# Altium footprint library PcbLib1.PcbLib: 46 footprints (part 3 of 3)
Each footprint in its own frame and in the unit in brackets; x right, y up, seen from the top. Pads: shape width x height; smd on the part's side, far side on the other; paste and mask are expansions set on the pad; w line width, h text height; cw(c..) or ccw(c..) is an arc to the next point about the centre after c.
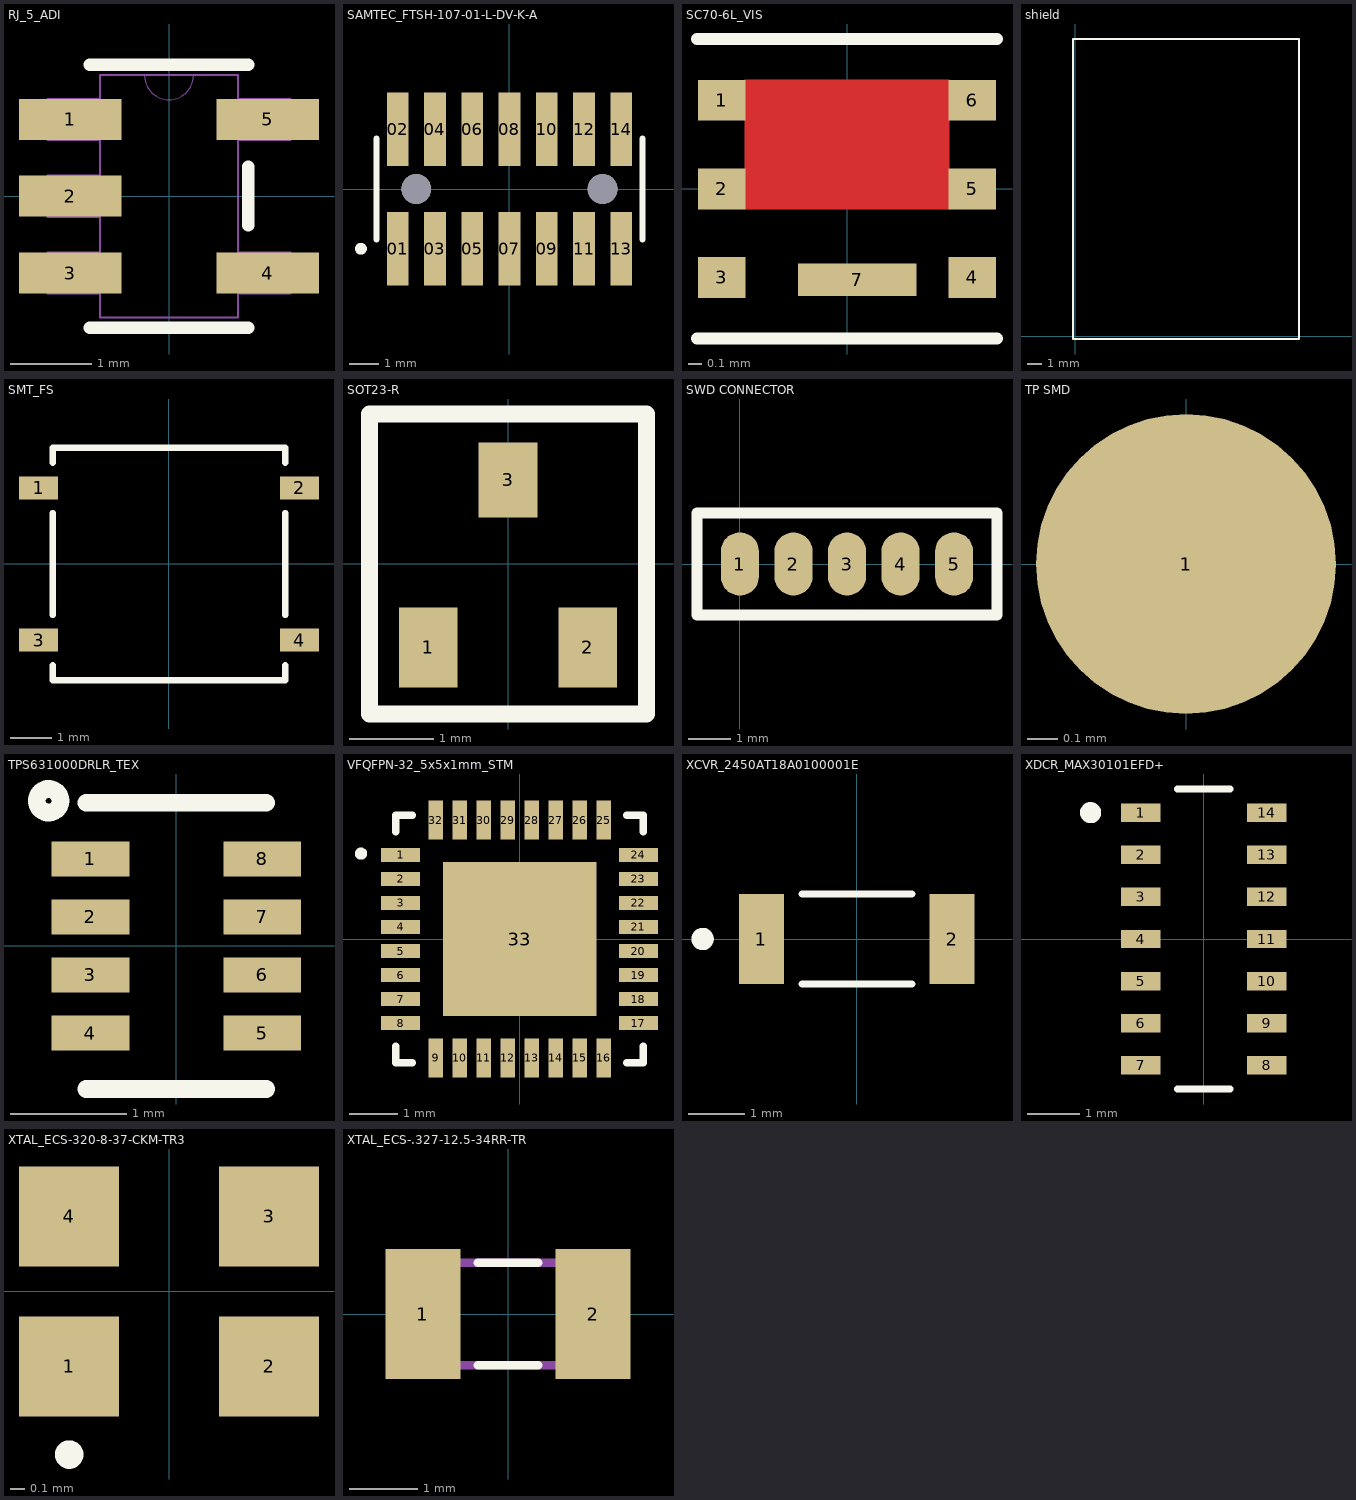
[diagram p2: the footprints below, top view; thin cyan lines are the x and y axes]

## RJ_5_ADI [mil]
pads (5):
  rect 50x20 smd paste+0 mask+0: 1(-48,37.4) 2(-48,0) 3(-48,-37.4) 4(48,-37.4) 5(48,37.4)
Top Overlay:
  lines w6: -38.5,-64 38.5,-64 ; -38.5,64 38.5,64 ; 38.5,-14.3 38.5,14.3
Mechanical 13:
  lines w0: -12,59 ccw(c0,59) 12,59
  lines w1: -59,-47.4 -33.5,-47.4 -33.5,-27.4 -59,-27.4 -59,-47.4 ; -59,-10 -33.5,-10 -33.5,10 -59,10 -59,-10 ; -59,27.4 -33.5,27.4 -33.5,47.4 -59,47.4 -59,27.4 ; -33.5,-59 -33.5,59 33.5,59 33.5,-59 -33.5,-59 ; 33.5,-47.4 59,-47.4 59,-27.4 33.5,-27.4 33.5,-47.4 ; 33.5,27.4 59,27.4 59,47.4 33.5,47.4 33.5,27.4
3D body "RJ_5_ADI.step": height 57.09, standoff 0, extent -59.02,-59.02 59.02,59.02

## SAMTEC_FTSH-107-01-L-DV-K-A [mm]
pads (16):
  rect 0.74x2.5 smd: 01(-3.81,-2.035) 02(-3.81,2.035) 03(-2.54,-2.035) 04(-2.54,2.035) 05(-1.27,-2.035) 06(-1.27,2.035) 07(0,-2.035) 08(0,2.035) 09(1.27,-2.035) 10(1.27,2.035) 11(2.54,-2.035) 12(2.54,2.035) 13(3.81,-2.035) 14(3.81,2.035)
  round 1.02 hole 1.02 unplated: ""(-3.175,0) ""(3.175,0)
Top Overlay:
  circle w0.2: c-5.06,-2.035 r0.1
  lines w0.2: -4.53,-1.715 -4.53,1.715 ; 4.53,-1.715 4.53,1.715
Bottom Solder:
  circle w0: c-3.175,0 r0.561
  circle w0: c3.175,0 r0.561
3D body "FTSH-107-01-L-DV-K-A.stp": height 6.1, standoff -0.89, extent -4.445,-2.921 4.445,2.921

## SC70-6L_VIS [mm]
pads (7):
  rect 0.35x0.3 smd paste-0.343: 1(-0.92,0.65) 2(-0.92,0) 3(-0.92,-0.65) 4(0.92,-0.65) 5(0.92,0) 6(0.92,0.65)
  rect 0.87x0.235 smd paste-0.445: 7(0.076,-0.667)
Top Layer:
  region: 0.75,0.8 -0.75,0.8 -0.75,-0.15 0.75,-0.15
Top Overlay:
  lines w0.089: -1.1,-1.1 1.1,-1.1 ; -1.1,1.1 1.1,1.1
Top Paste:
  region: 0.511,-0.553 -0.359,-0.553 -0.359,-0.782 0.511,-0.782
  region: 0.75,0.79 -0.75,0.79 -0.75,-0.15 0.75,-0.15
  region: 0.75,0.79 -0.75,0.79 -0.75,-0.15 0.75,-0.15
  region: 0.75,0.79 -0.75,0.79 -0.75,-0.15 0.75,-0.15
  region: 0.75,0.79 -0.75,0.79 -0.75,-0.15 0.75,-0.15
  region: 0.75,0.79 -0.75,0.79 -0.75,-0.15 0.75,-0.15
Top Solder:
  region: 0.75,0.79 -0.75,0.79 -0.75,-0.15 0.75,-0.15
3D body "SIA436DJ-T1-GE3.STEP": height 0.8, standoff 0, extent -1.025,-1.025 1.025,1.025

## shield [mm]
Top Overlay:
  lines w0.12: -0.127,-0.177 15.073,-0.177 15.073,20.023 -0.127,20.023 -0.127,-0.177
3D body "s02-20150300.stp": height 3.25, standoff 0.05, extent -0.127,-0.177 15.073,20.023

## SMT_FS [mil]
pads (4):
  rect 37.5x22 smd paste+0: 1(-125.25,73) 2(125.25,73) 3(-125.25,-73) 4(125.25,-73)
Top Overlay:
  lines w6: -111.5,-97.1 -111.5,-111.5 111.5,-111.5 111.5,-97.1 ; -111.5,-48.9 -111.5,48.9 ; -111.5,97.1 -111.5,111.5 111.5,111.5 111.5,97.1 ; 111.5,-48.9 111.5,48.9
3D body "PTS525SM15SMTR2LFS--3DModel-STEP-56544.STEP": height 62.99, standoff 0, extent -125.98,-100.39 125.98,100.39

## SOT23-R [mm]
height 1.1
pads (3):
  rect 0.7x0.95 smd: 1(-0.95,-1) 2(0.95,-1)
  rect 0.7x0.9 smd: 3(0,1)
Top Overlay:
  lines w0.203: -1.651,-1.794 -1.651,1.787 1.651,1.787 1.651,-1.794 -1.651,-1.794
3D body "SOT23-2.STEP": height 1.07, standoff -0.01, extent -1.476,-1.395 1.524,1.245

## SWD CONNECTOR [mm]
pads (5):
  oval 0.9x1.5 smd: 1(0,0) 2(1.27,0) 3(2.54,0) 4(3.81,0) 5(5.08,0)
Top Overlay:
  lines w0.254: -1.016,-1.206 6.096,-1.206 6.096,1.206 -1.016,1.206 -1.016,-1.206

## TP SMD [mm]
pads (1):
  round 1 smd: 1(0,0)

## TPS631000DRLR_TEX [mm]
pads (8):
  rect 0.67x0.3 smd paste+0 mask+0: 1(-0.74,0.75) 2(-0.74,0.25) 3(-0.74,-0.25) 4(-0.74,-0.75) 5(0.74,-0.75) 6(0.74,-0.25) 7(0.74,0.25) 8(0.74,0.75)
Top Overlay:
  circle w0.152: c-1.1,1.25 r0.102
  lines w0.152: -0.775,-1.232 0.775,-1.232 ; -0.775,1.232 0.775,1.232
3D body "TPS631000DRLR_TEX.step": height 0.69, standoff 0, extent -0.851,-1.105 0.851,1.105

## VFQFPN-32_5x5x1mm_STM [mil]
pads (33):
  rect 32x11.81 smd: 1(-97.5,68.9) 2(-97.5,49.21) 3(-97.5,29.53) 4(-97.5,9.84) 5(-97.5,-9.84) 6(-97.5,-29.53) 7(-97.5,-49.21) 8(-97.5,-68.9) 17(97.5,-68.9) 18(97.5,-49.21) 19(97.5,-29.53) 20(97.5,-9.84) 21(97.5,9.84) 22(97.5,29.53) 23(97.5,49.21) 24(97.5,68.9)
  rect 11.81x32 smd: 9(-68.9,-97.5) 10(-49.21,-97.5) 11(-29.53,-97.5) 12(-9.84,-97.5) 13(9.84,-97.5) 14(29.53,-97.5) 15(49.21,-97.5) 16(68.9,-97.5) 25(68.9,97.5) 26(49.21,97.5) 27(29.53,97.5) 28(9.84,97.5) 29(-9.84,97.5) 30(-29.53,97.5) 31(-49.21,97.5) 32(-68.9,97.5)
  rect 126x126 smd paste-18.45: 33(0,0)
Top Overlay:
  circle w5: c-130,70 r2.5
  lines w6: -101.5,-88 -101.5,-101.5 -88,-101.5 ; -101.5,88 -101.5,101.5 -88,101.5 ; 88,-101.5 101.5,-101.5 101.5,-88 ; 88,101.5 101.5,101.5 101.5,88
3D body "VFQFPN-32_5x5x1mm_STM.step": height 39.09, standoff 0, extent -101.5,-101.5 101.5,101.5

## XCVR_2450AT18A0100001E [mm]
height 1.4
pads (2):
  rect 0.8x1.6 smd: 1(-1.7,0) 2(1.7,0)
Top Overlay:
  circle w0.2: c-2.75,0 r0.1
  lines w0.127: -0.98,-0.8 0.98,-0.8 ; -0.98,0.8 0.98,0.8
3D body "2450AT18A0100001E.step": height 1.4, standoff 0, extent -1.623,-0.821 1.577,0.779

## XDCR_MAX30101EFD+ [mm]
pads (14):
  rect 0.75x0.35 smd: 1(-1.2,2.4) 2(-1.2,1.6) 3(-1.2,0.8) 4(-1.2,0) 5(-1.2,-0.8) 6(-1.2,-1.6) 7(-1.2,-2.4) 8(1.2,-2.4) 9(1.2,-1.6) 10(1.2,-0.8) 11(1.2,0) 12(1.2,0.8) 13(1.2,1.6) 14(1.2,2.4)
Top Overlay:
  circle w0.2: c-2.15,2.4 r0.1
  lines w0.127: -0.505,-2.85 0.505,-2.85 ; -0.505,2.85 0.505,2.85
3D body "MAX30102EFD_T.step": height 1.65, standoff 0, extent -1.65,-2.8 1.65,2.8

## XTAL_ECS-320-8-37-CKM-TR3 [mm]
pads (4):
  rect 0.7x0.7 smd: 1(-0.7,-0.525) 2(0.7,-0.525) 3(0.7,0.525) 4(-0.7,0.525)
Top Overlay:
  circle w0.1: c-0.699,-1.143 r0.05
3D body "step_temp.STEP": height 0.55, standoff 0, extent -1,-0.8 1,0.8

## XTAL_ECS-.327-12.5-34RR-TR [mm]
pads (2):
  rect 1.1x1.9 smd: 1(-1.25,0) 2(1.25,0)
Top Overlay:
  lines w0.127: -0.44,-0.75 0.44,-0.75 ; -0.44,0.75 0.44,0.75
Mechanical 13:
  lines w0.127: -1.6,-0.75 1.6,-0.75 1.6,0.75 -1.6,0.75 -1.6,-0.75
3D body "ECX-.327-CDX-1293--3DModel-STEP-56544.STEP": height 0.9, standoff 0, extent -1.6,-0.75 1.6,0.75